# Altium footprint library ON Semi General Purpose Transistors.PcbLib: 66 footprints (part 4 of 5)
Each footprint in its own frame and in the unit in brackets; x right, y up, seen from the top. Pads: shape width x height; smd on the part's side, far side on the other; paste and mask are expansions set on the pad; w line width, h text height; cw(c..) or ccw(c..) is an arc to the next point about the centre after c.
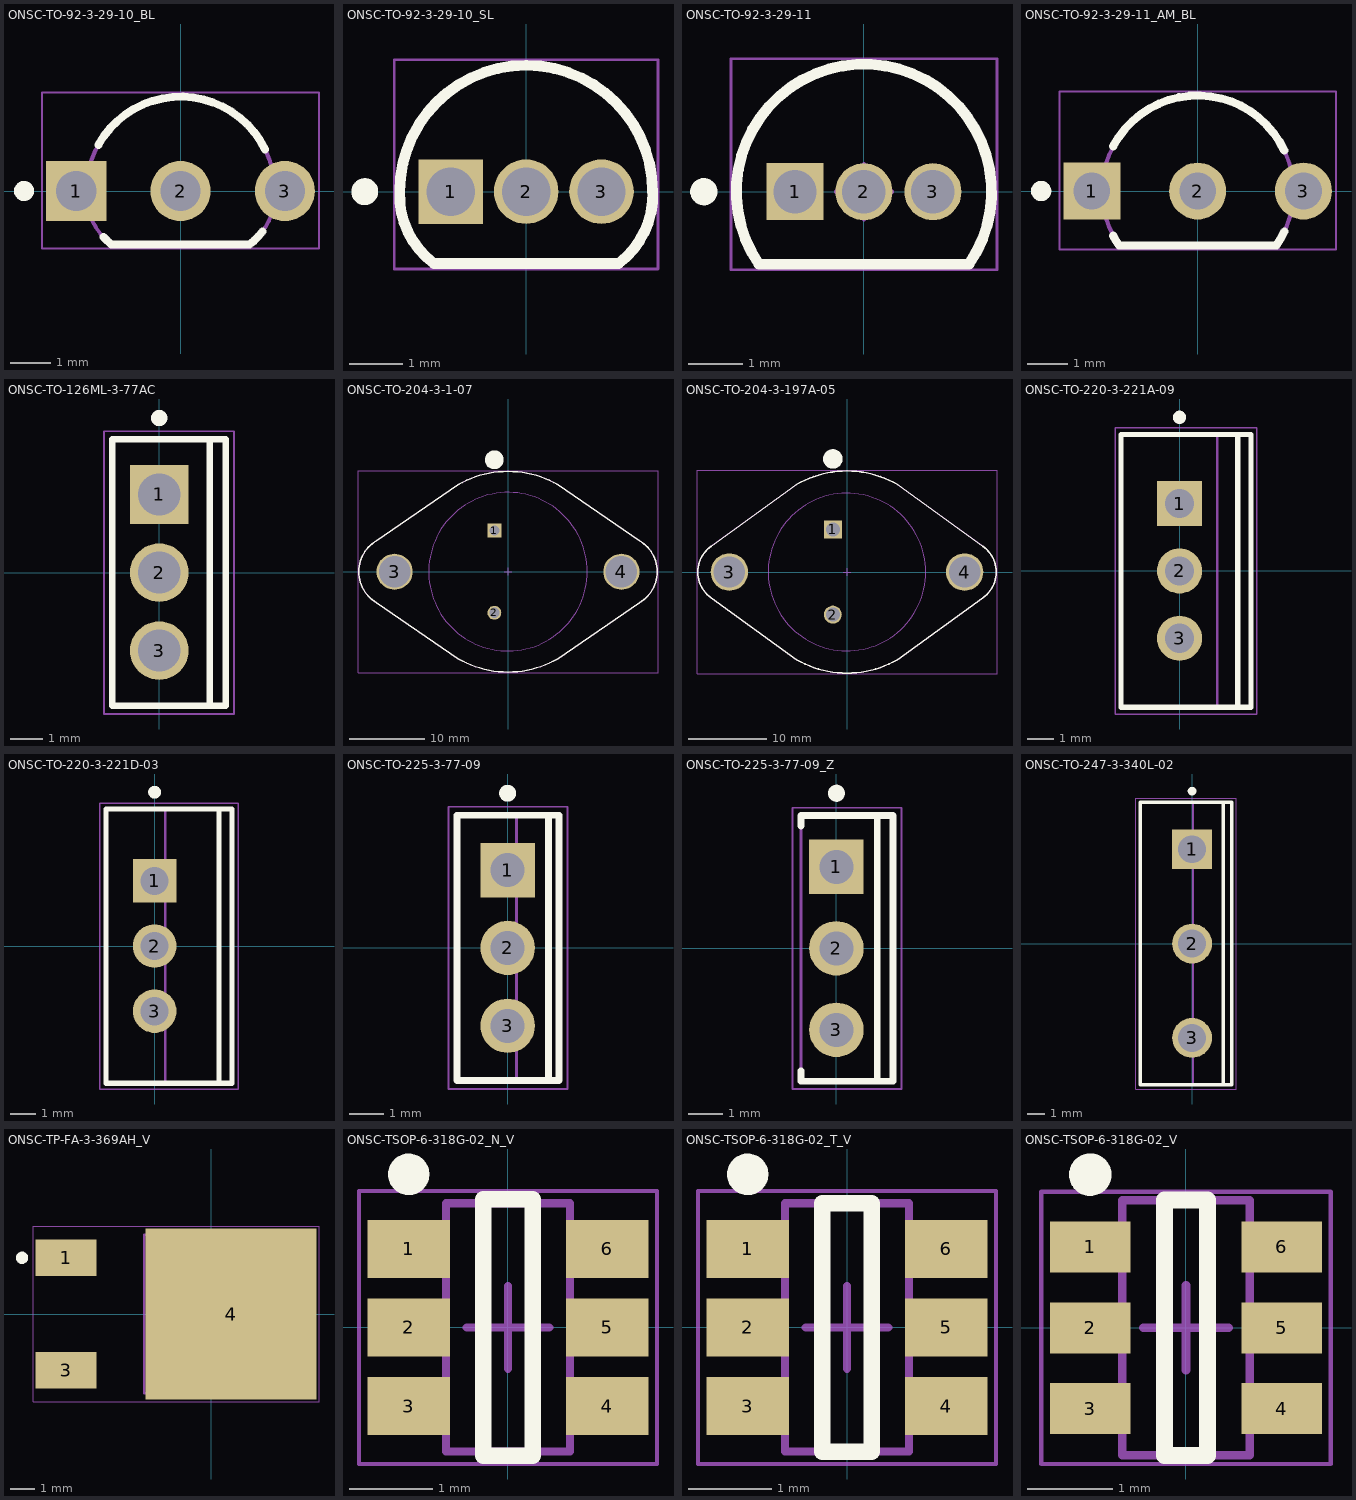
[diagram p3: the footprints below, top view; thin cyan lines are the x and y axes]

## ONSC-TO-92-3-29-10_BL [mm] "TO, 3-Leads, Body Dia 4.7 mm, Pitch 2.6 mm"
height 10.41
pads (3):
  rect 1.5x1.5 hole 1: 1(-2.6,0)
  round 1.5 hole 1: 2(0,0) 3(2.6,0)
Top Overlay:
  circle w0.25: c-3.9,0 r0.125
  lines w0.2: -2.05,1.15 cw(c0,0) 2.108,1.04 ; -1.922,-1.15 ccw(c-0.773,-0.068) -1.715,-1.335 1.715,-1.335 ccw(c0.773,-0.068) 2.043,-1.006
Mechanical 13:
  lines w0.1: -2.35,0 ccw(c-0.773,-0.068) -1.715,-1.335 1.715,-1.335 ccw(c0.773,-0.068) 2.35,0 ; -2.35,0 cw(c0,0) 2.35,0
Mechanical 15:
  lines w0.05: -3.45,-1.435 3.45,-1.435 3.45,2.45 -3.45,2.45 -3.45,-1.435
  lines w0.1: -0.5,0 0.5,0 ; 0,-0.5 0,0.5
3D body: height 10.41, standoff 2.54, extent -2.359,-1.336 2.352,0
3D body: height 7.87, standoff 2.54, extent -2.351,-0.001 2.351,2.351

## ONSC-TO-92-3-29-10_SL [mm] "TO, 3-Leads, Body Dia 4.7 mm, Pitch 1.27mm"
height 10.41
pads (3):
  rect 1.2x1.2 hole 0.9: 1(-1.4,0)
  round 1.2 hole 0.9: 2(0,0) 3(1.4,0)
Top Overlay:
  circle w0.25: c-3,0 r0.125
  lines w0.2: -2.35,0 ccw(c-0.773,-0.068) -1.715,-1.335 1.715,-1.335 ccw(c0.773,-0.068) 2.35,0 ; -2.35,0 cw(c0,0) 2.35,0
Mechanical 13:
  lines w0.1: -2.35,0 ccw(c-0.773,-0.068) -1.715,-1.335 1.715,-1.335 ccw(c0.773,-0.068) 2.35,0 ; -2.35,0 cw(c0,0) 2.35,0
Mechanical 15:
  lines w0.05: -2.45,-1.435 2.45,-1.435 2.45,2.45 -2.45,2.45 -2.45,-1.435
  lines w0.1: -0.5,0 0.5,0 ; 0,-0.5 0,0.5
3D body: height 10.41, standoff 2.54, extent -2.352,-1.335 2.359,2.351

## ONSC-TO-92-3-29-11 [mm] "TO, 3-Leads, Body Dia 4.7mm, Pitch 1.27mm"
height 7.87
pads (3):
  rect 1.05x1.05 hole 0.8: 1(-1.27,0)
  round 1.05 hole 0.8: 2(0,0) 3(1.27,0)
Top Overlay:
  circle w0.25: c-2.95,0 r0.125
  lines w0.2: -1.934,-1.335 cw(c0,0) 1.934,-1.335 -1.934,-1.335
Mechanical 13:
  lines w0.1: -1.934,-1.335 cw(c0,0) 1.934,-1.335 -1.934,-1.335
Mechanical 15:
  lines w0.05: -2.45,-1.435 2.45,-1.435 2.45,2.45 -2.45,2.45 -2.45,-1.435
  lines w0.1: -0.5,0 0.5,0 ; 0,-0.5 0,0.5
3D body: height 7.87, standoff 2.54, extent -2.349,-1.334 2.357,2.359

## ONSC-TO-92-3-29-11_AM_BL [mm] "TO, 3-Leads, Body Dia 4.7mm, Pitch 2.6mm"
height 8.923
pads (3):
  rect 1.4x1.4 hole 0.9: 1(-2.6,0)
  round 1.4 hole 0.9: 2(0,0) 3(2.6,0)
Top Overlay:
  circle w0.25: c-3.85,0 r0.125
  lines w0.2: -2.077,-1.1 ccw(c0,0) -1.934,-1.335 1.934,-1.335 ccw(c0,0) 2.129,-0.994 ; -2.077,1.1 cw(c0,0) 2.129,0.994
Mechanical 13:
  lines w0.1: -1.934,-1.335 cw(c0,0) 1.934,-1.335 -1.934,-1.335
Mechanical 15:
  lines w0.05: -3.4,-1.435 3.4,-1.435 3.4,2.45 -3.4,2.45 -3.4,-1.435
  lines w0.1: -0.5,0 0.5,0 ; 0,-0.5 0,0.5
3D body: height 8.92, standoff 1.5, extent -2.359,-1.335 2.359,2.351
3D body "PCB3.step": height 4, standoff -8.7, extent -2.836,-0.222 2.836,0.223

## ONSC-TO-126ML-3-77AC [mm] "FM, 3-Leads, Body 8.2x3.5mm, Pitch 2.4mm"
height 12.5
pads (3):
  rect 1.8x1.8 hole 1.3: 1(0,2.4)
  round 1.8 hole 1.3: 2(0,0) 3(0,-2.4)
Top Overlay:
  circle w0.25: c0,4.75 r0.125
  lines w0.2: 1.55,-4.1 1.55,4.1 ; -1.45,-4.1 -1.45,4.1 2.05,4.1 2.05,-4.1 -1.45,-4.1
Mechanical 13:
  lines w0.1: 2.05,-4.1 2.05,4.1 ; 2.05,-4.1 -1.45,-4.1 -1.45,4.1 2.05,4.1 ; 2.05,-4.1 2.05,4.1
Mechanical 15:
  lines w0.05: -1.7,-4.35 2.3,-4.35 2.3,4.35 -1.7,4.35 -1.7,-4.35
  lines w0.1: -0.5,0 0.5,0 ; 0,-0.5 0,0.5
3D body: height 13.1, standoff 12.5, extent 2.05,-4 2.05,4
3D body: height 12.5, standoff 1.2, extent -1.45,-4.1 2.05,4.1
3D body: height 0, standoff -1.6, extent -0.35,-2.8 0.35,-2
3D body: height 1.2, standoff 0, extent -0.35,-3.2 0.35,-1.6
3D body: height 0, standoff -1.6, extent -0.35,-0.4 0.35,0.4
3D body: height 1.2, standoff 0, extent -0.35,-0.8 0.35,0.8
3D body: height 0, standoff -1.6, extent -0.35,2 0.35,2.8
3D body: height 1.2, standoff 0, extent -0.35,1.6 0.35,3.2

## ONSC-TO-204-3-1-07 [mm] "TO-204, Pin Spacing 10.92mm, Lead Dia. 1.09 mm (max)"
height 8.51
pads (4):
  rect 1.85x1.85 hole 1.35: 1(-1.815,5.46)
  round 1.85 hole 1.35: 2(-1.815,-5.46)
  round 4.8 hole 4.19 mask+0.102: 3(-15.075,0) 4(15.075,0)
Top Overlay:
  circle w1.25: c-1.815,14.875 r0.625
  lines w0.2: -19.845,0 cw(c-15.075,0) -17.46,4.131 -6.668,11.548 cw(c0,0) 6.667,11.548 17.46,4.131 cw(c15.075,0) 19.845,0 cw(c15.075,0) 17.46,-4.131 6.668,-11.548 cw(c0,0) -6.667,-11.548 -17.46,-4.131 cw(c-15.075,0) -19.845,0
Mechanical 13:
  circle w0.1: c0,0 r10.54
  lines w0.1: -17.981,-3.791 -6.475,-11.681 ; -17.811,3.907 -6.475,11.681 ; -17.46,-4.131 cw(c-15.075,0) -19.845,0 cw(c-15.075,0) -17.46,4.131 ; -6.667,-11.548 ccw(c0,0) 6.668,-11.548 ; -6.668,11.548 cw(c0,0) 6.667,11.548 ; 6.475,-11.681 17.811,-3.907 ; 6.475,11.681 17.981,3.791 ; 17.46,-4.131 ccw(c15.075,0) 19.845,0 ccw(c15.075,0) 17.46,4.131 ; 12.98,0 ccw(c15.075,0) 17.17,0 ccw(c15.075,0) 12.98,0
Mechanical 15:
  lines w0.05: -19.939,-13.45 -19.939,13.45 19.939,13.45 19.939,-13.45 -19.939,-13.45
  lines w0.1: -0.5,0 0.5,0 ; 0,-0.5 0,0.5
3D body: height 1.77, standoff 0, extent -19.844,-13.334 19.845,-0.001
3D body: height 1.77, standoff 0, extent -19.845,0.001 19.844,13.334
3D body: height 8.51, standoff 1.77, extent -10.539,-10.539 10.54,10.54

## ONSC-TO-204-3-197A-05 [mm] "TO-204, Pin Spacing 10.92 mm, Lead Dia. 1.6 mm (max)"
height 8.51
pads (4):
  rect 2.3x2.3 hole 1.8: 1(-1.815,5.46)
  round 2.3 hole 1.8: 2(-1.815,-5.46)
  round 4.8 hole 4.015: 3(-15.075,0) 4(15.075,0)
Top Overlay:
  circle w1.25: c-1.815,14.492 r0.625
  lines w0.2: -17.449,-3.281 -6.478,-11.219 ccw(c0,0) 0,-12.955 ccw(c0,0) 6.478,-11.219 17.449,-3.281 ; -17.449,3.281 -6.478,11.219 cw(c0,0) 0,12.955 cw(c0,0) 6.478,11.219 17.449,3.281 ; -17.398,-3.318 cw(c-15.075,0) -19.125,0 cw(c-15.075,0) -17.398,3.318 ; 17.398,-3.318 ccw(c15.075,0) 19.125,0 ccw(c15.075,0) 17.398,3.318
Mechanical 13:
  circle w0.1: c15.075,0 r2.007
  circle w0.1: c-15.075,0 r2.007
  circle w0.1: c0,0 r10.098
  lines w0.1: -17.449,-3.281 -6.478,-11.219 ccw(c0,0) 0,-12.955 ccw(c0,0) 6.478,-11.219 17.449,-3.281 ; -17.449,3.281 -6.478,11.219 cw(c0,0) 0,12.955 cw(c0,0) 6.478,11.219 17.449,3.281 ; -17.398,-3.318 cw(c-15.075,0) -19.125,0 cw(c-15.075,0) -17.398,3.318 ; 17.398,-3.318 ccw(c15.075,0) 19.125,0 ccw(c15.075,0) 17.398,3.318
Mechanical 15:
  lines w0.05: -19.225,-13.055 19.225,-13.055 19.225,13.055 -19.225,13.055 -19.225,-13.055
  lines w0.1: -0.5,0 0.5,0 ; 0,-0.5 0,0.5
3D body: height 8.51, standoff 0, extent -10.097,-10.097 10.097,10.097
3D body: height 1.77, standoff 0, extent -19.124,0.001 19.124,12.954
3D body: height 1.77, standoff 0, extent -19.124,-12.954 19.124,-0.001
3D body: height 0, standoff -11.69, extent -2.577,-6.222 -1.053,-4.698
3D body: height 0, standoff -11.69, extent -2.577,4.698 -1.053,6.222

## ONSC-TO-220-3-221A-09 [mm] "FM, 3-Leads, Body 10.3x4.85mm, Pitch 2.54mm"
height 19.85
pads (3):
  rect 1.7x1.7 hole 1.1: 1(0,2.54)
  round 1.7 hole 1.1: 2(0,0) 3(0,-2.54)
Top Overlay:
  circle w0.25: c0,5.8 r0.125
  lines w0.2: 2.195,-5.15 2.195,5.15 ; -2.205,-5.15 2.695,-5.15 2.695,5.15 -2.205,5.15 -2.205,-5.15
Mechanical 13:
  lines w0.1: 1.42,-5.15 1.42,5.15 ; -2.18,-5.15 -2.18,5.15 2.67,5.15 2.67,-5.15 -2.18,-5.15
Mechanical 15:
  lines w0.05: -2.43,-5.4 -2.43,5.4 2.92,5.4 2.92,-5.4 -2.43,-5.4
  lines w0.1: -0.5,0 0.5,0 ; 0,-0.5 0,0.5
3D body: height 2.8, standoff 0, extent -0.25,1.87 0.25,3.21
3D body: height 0, standoff -1.6, extent -0.25,2.15 0.25,2.93
3D body: height 2.8, standoff 0, extent -0.25,-0.67 0.25,0.67
3D body: height 0, standoff -1.6, extent -0.25,-0.39 0.25,0.39
3D body: height 2.8, standoff 0, extent -0.25,-3.21 0.25,-1.87
3D body: height 0, standoff -1.6, extent -0.25,-2.93 0.25,-2.15
3D body: height 13.65, standoff 2.8, extent -2.18,-5.15 2.67,5.15
3D body: height 15.13, standoff 13.65, extent 1.42,-4.975 2.67,4.975
3D body: height 15.17, standoff 15.13, extent 1.42,0.376 2.67,4.975
3D body: height 15.17, standoff 15.13, extent 1.42,-4.975 2.67,-0.376
3D body: height 18.98, standoff 18.94, extent 1.42,0.376 2.67,4.975
3D body: height 18.98, standoff 18.94, extent 1.42,-4.975 2.67,-0.376
3D body: height 15.28, standoff 15.16, extent 1.42,0.737 2.67,4.975
3D body: height 15.28, standoff 15.16, extent 1.42,-4.975 2.67,-0.737
3D body: height 18.94, standoff 18.83, extent 1.42,0.737 2.67,4.975
3D body: height 18.94, standoff 18.83, extent 1.42,-4.975 2.67,-0.737
3D body: height 15.45, standoff 15.27, extent 1.42,1.069 2.67,4.975
3D body: height 15.45, standoff 15.27, extent 1.42,-4.975 2.67,-1.069
3D body: height 18.83, standoff 18.65, extent 1.42,1.069 2.67,4.975
3D body: height 18.83, standoff 18.65, extent 1.42,-4.975 2.67,-1.069
3D body: height 15.69, standoff 15.45, extent 1.42,1.361 2.67,4.975
3D body: height 15.69, standoff 15.45, extent 1.42,-4.975 2.67,-1.361
3D body: height 18.66, standoff 18.41, extent 1.42,1.361 2.67,4.975
3D body: height 18.66, standoff 18.41, extent 1.42,-4.975 2.67,-1.361
3D body: height 15.99, standoff 15.69, extent 1.42,1.601 2.67,4.975
3D body: height 15.99, standoff 15.69, extent 1.42,-4.975 2.67,-1.601
3D body: height 18.42, standoff 18.12, extent 1.42,1.601 2.67,4.975
3D body: height 18.42, standoff 18.12, extent 1.42,-4.975 2.67,-1.601
3D body: height 16.32, standoff 15.98, extent 1.42,1.778 2.67,4.975
3D body: height 16.32, standoff 15.98, extent 1.42,-4.975 2.67,-1.778
3D body: height 18.12, standoff 17.79, extent 1.42,1.778 2.67,4.975
3D body: height 18.12, standoff 17.79, extent 1.42,-4.975 2.67,-1.778
3D body: height 16.68, standoff 16.31, extent 1.42,1.888 2.67,4.975
3D body: height 16.68, standoff 16.31, extent 1.42,-4.975 2.67,-1.888
3D body: height 17.79, standoff 17.43, extent 1.42,1.888 2.67,4.975
3D body: height 17.79, standoff 17.43, extent 1.42,-4.975 2.67,-1.888
3D body: height 17.05, standoff 16.67, extent 1.42,1.925 2.67,4.975
3D body: height 17.05, standoff 16.67, extent 1.42,-4.975 2.67,-1.925
3D body: height 17.43, standoff 17.05, extent 1.42,1.925 2.67,4.975
3D body: height 17.43, standoff 17.05, extent 1.42,-4.975 2.67,-1.925
3D body: height 19.85, standoff 18.98, extent 1.42,-4.975 2.67,4.975

## ONSC-TO-220-3-221D-03 [mm] "FM, 3-Leads, Body 10.65x4.9mm, Pitch 2.54mm"
height 19.55
pads (3):
  rect 1.7x1.7 hole 1.1: 1(0,2.54)
  round 1.7 hole 1.1: 2(0,0) 3(0,-2.54)
Top Overlay:
  circle w0.25: c0,6 r0.125
  lines w0.2: 2.51,-5.35 2.51,5.35 ; -1.89,-5.35 3.01,-5.35 3.01,5.35 -1.89,5.35 -1.89,-5.35
Mechanical 13:
  lines w0.1: 0.41,-5.325 0.41,5.325 ; -1.89,-5.325 -1.89,5.325 3.01,5.325 3.01,-5.325 -1.89,-5.325
Mechanical 15:
  lines w0.05: -2.14,-5.575 -2.14,5.575 3.26,5.575 3.26,-5.575 -2.14,-5.575
  lines w0.1: -0.5,0 0.5,0 ; 0,-0.5 0,0.5
3D body: height 3, standoff 0, extent -0.27,1.865 0.27,3.215
3D body: height 0, standoff -1.6, extent -0.27,2.14 0.27,2.94
3D body: height 3, standoff 0, extent -0.27,-0.675 0.27,0.675
3D body: height 0, standoff -1.6, extent -0.27,-0.4 0.27,0.4
3D body: height 3, standoff 0, extent -0.27,-3.215 0.27,-1.865
3D body: height 0, standoff -1.6, extent -0.27,-2.94 0.27,-2.14
3D body: height 13.1, standoff 3, extent -1.89,-5.325 3.01,5.325
3D body: height 14.7, standoff 13.1, extent 0.41,-5.15 3.01,5.15
3D body: height 14.73, standoff 14.7, extent 0.41,0.302 3.01,5.15
3D body: height 14.73, standoff 14.7, extent 0.41,-5.15 3.01,-0.302
3D body: height 17.8, standoff 17.77, extent 0.41,0.302 3.01,5.15
3D body: height 17.8, standoff 17.77, extent 0.41,-5.15 3.01,-0.302
3D body: height 14.82, standoff 14.73, extent 0.41,0.593 3.01,5.15
3D body: height 14.82, standoff 14.73, extent 0.41,-5.15 3.01,-0.593
3D body: height 17.78, standoff 17.68, extent 0.41,0.593 3.01,5.15
3D body: height 17.78, standoff 17.68, extent 0.41,-5.15 3.01,-0.593
3D body: height 14.97, standoff 14.82, extent 0.41,0.861 3.01,5.15
3D body: height 14.97, standoff 14.82, extent 0.41,-5.15 3.01,-0.861
3D body: height 17.69, standoff 17.54, extent 0.41,0.861 3.01,5.15
3D body: height 17.69, standoff 17.54, extent 0.41,-5.15 3.01,-0.861
3D body: height 15.16, standoff 14.96, extent 0.41,1.096 3.01,5.15
3D body: height 15.16, standoff 14.96, extent 0.41,-5.15 3.01,-1.096
3D body: height 17.54, standoff 17.35, extent 0.41,1.096 3.01,5.15
3D body: height 17.54, standoff 17.35, extent 0.41,-5.15 3.01,-1.096
3D body: height 15.39, standoff 15.15, extent 0.41,1.289 3.01,5.15
3D body: height 15.39, standoff 15.15, extent 0.41,-5.15 3.01,-1.289
3D body: height 17.35, standoff 17.11, extent 0.41,1.289 3.01,5.15
3D body: height 17.35, standoff 17.11, extent 0.41,-5.15 3.01,-1.289
3D body: height 15.66, standoff 15.39, extent 0.41,1.432 3.01,5.15
3D body: height 15.66, standoff 15.39, extent 0.41,-5.15 3.01,-1.432
3D body: height 17.12, standoff 16.84, extent 0.41,1.432 3.01,5.15
3D body: height 17.12, standoff 16.84, extent 0.41,-5.15 3.01,-1.432
3D body: height 15.95, standoff 15.66, extent 0.41,1.52 3.01,5.15
3D body: height 15.95, standoff 15.66, extent 0.41,-5.15 3.01,-1.52
3D body: height 16.85, standoff 16.55, extent 0.41,1.52 3.01,5.15
3D body: height 16.85, standoff 16.55, extent 0.41,-5.15 3.01,-1.52
3D body: height 16.25, standoff 15.95, extent 0.41,1.55 3.01,5.15
3D body: height 16.25, standoff 15.95, extent 0.41,-5.15 3.01,-1.55
3D body: height 16.56, standoff 16.25, extent 0.41,1.55 3.01,5.15
3D body: height 16.56, standoff 16.25, extent 0.41,-5.15 3.01,-1.55
3D body: height 19.55, standoff 17.8, extent 0.41,-5.15 3.01,5.15

## ONSC-TO-225-3-77-09 [mm] "FM, 3-Leads, Body 7.8x3mm, Pitch 2.29mm"
height 13.64
pads (3):
  rect 1.6x1.6 hole 1: 1(0,2.29)
  round 1.6 hole 1: 2(0,0) 3(0,-2.29)
Top Overlay:
  circle w0.25: c0,4.55 r0.125
  lines w0.2: 1.2,-3.9 1.2,3.9 ; -1.49,-3.9 1.51,-3.9 1.51,3.9 -1.49,3.9 -1.49,-3.9
Mechanical 13:
  lines w0.1: 0.26,-3.9 0.26,3.9 ; -1.49,-3.9 -1.49,3.9 1.51,3.9 1.51,-3.9 -1.49,-3.9
Mechanical 15:
  lines w0.05: -1.74,-4.15 -1.74,4.15 1.76,4.15 1.76,-4.15 -1.74,-4.15
  lines w0.1: -0.5,0 0.5,0 ; 0,-0.5 0,0.5
3D body: height 1.27, standoff 0, extent -0.255,1.74 0.255,2.84
3D body: height 0, standoff -1.6, extent -0.255,1.915 0.255,2.665
3D body: height 1.27, standoff 0, extent -0.255,-0.55 0.255,0.55
3D body: height 0, standoff -1.6, extent -0.255,-0.375 0.255,0.375
3D body: height 1.27, standoff 0, extent -0.255,-2.84 0.255,-1.74
3D body: height 0, standoff -1.6, extent -0.255,-2.665 0.255,-1.915
3D body: height 13.64, standoff 1.27, extent -1.49,-3.9 1.51,3.9
3D body: height 13.64, standoff 13.64, extent 0.26,-3.8 1.51,3.8

## ONSC-TO-225-3-77-09_Z [mm] "FM, 3-Leads, Body 7.75x2.7mm, Pitch 2.39mm"
height 13.45
pads (3):
  rect 1.6x1.6 hole 1: 1(0,2.39)
  round 1.6 hole 1: 2(0,0) 3(0,-2.39)
Top Overlay:
  circle w0.25: c0,4.55 r0.125
  lines w0.2: -1.04,-3.59 -1.04,-3.9 1.66,-3.9 1.66,3.9 -1.04,3.9 -1.04,3.59 ; 1.2,-3.9 1.2,3.9
Mechanical 13:
  lines w0.1: 1.66,-3.875 1.66,3.875 ; 1.66,-3.875 -1.04,-3.875 -1.04,3.875 1.66,3.875 ; 1.66,-3.875 1.66,3.875
Mechanical 15:
  lines w0.05: -1.29,-4.125 1.91,-4.125 1.91,4.125 -1.29,4.125 -1.29,-4.125
  lines w0.1: -0.5,0 0.5,0 ; 0,-0.5 0,0.5
3D body: height 13.45, standoff 13.45, extent 1.66,-3.8 1.66,3.8
3D body: height 13.45, standoff 1.27, extent -1.04,-3.875 1.66,3.875
3D body: height 0, standoff -1.6, extent -0.255,-2.77 0.255,-2.01
3D body: height 1.27, standoff 0, extent -0.255,-2.94 0.255,-1.84
3D body: height 0, standoff -1.6, extent -0.255,-0.38 0.255,0.38
3D body: height 1.27, standoff 0, extent -0.255,-0.55 0.255,0.55
3D body: height 0, standoff -1.6, extent -0.255,2.01 0.255,2.77
3D body: height 1.27, standoff 0, extent -0.255,1.84 0.255,2.94

## ONSC-TO-247-3-340L-02 [mm] "FM, 3-Leads, Body 16.3x5.3mm, Pitch 5.45mm"
height 25.58
pads (3):
  rect 2.3x2.3 hole 1.6: 1(0,5.45)
  round 2.3 hole 1.6: 2(0,0) 3(0,-5.45)
Top Overlay:
  circle w0.25: c0,8.8 r0.125
  lines w0.2: 1.8,-8.15 1.8,8.15 ; -3,-8.15 -3,8.15 2.3,8.15 2.3,-8.15 -3,-8.15
Mechanical 13:
  lines w0.1: 0.05,-8.15 0.05,8.15 ; -3,-8.15 2.3,-8.15 2.3,8.15 -3,8.15 -3,-8.15
Mechanical 15:
  lines w0.05: -3.25,-8.4 2.55,-8.4 2.55,8.4 -3.25,8.4 -3.25,-8.4
  lines w0.1: -0.5,0 0.5,0 ; 0,-0.5 0,0.5
3D body: height 25.58, standoff 4.5, extent -3,-8.15 2.3,8.15
3D body: height 0, standoff -1.6, extent -0.3,-6.05 0.3,-4.85
3D body: height 4.5, standoff 0, extent -0.3,-6.95 0.3,-3.95
3D body: height 0, standoff -1.6, extent -0.3,4.85 0.3,6.05
3D body: height 4.5, standoff 0, extent -0.3,3.95 0.3,6.95
3D body: height 0, standoff -1.6, extent -0.3,-0.6 0.3,0.6
3D body: height 4.5, standoff 0, extent -0.3,-1.5 0.3,1.5

## ONSC-TP-FA-3-369AH_V [mm] "DPAK, 3-Leads, Body 6.5x5.5mm, Pitch 2.3mm"
height 2.5
pads (3):
  rect 2.5x1.5 smd: 1(-5.95,2.3) 3(-5.95,-2.3)
  rect 7x7 smd: 4(0.8,0)
Top Overlay:
  circle w0.25: c-7.75,2.3 r0.125
Mechanical 13:
  lines w0.1: -2.75,-3.25 -2.75,3.25 2.75,3.25 2.75,-3.25 -2.75,-3.25
Mechanical 15:
  lines w0.05: -7.3,-3.6 -7.3,3.6 4.4,3.6 4.4,-3.6 -7.3,-3.6
  lines w0.1: -0.5,0 0.5,0 ; 0,-0.5 0,0.5
3D body: height 2.5, standoff 0, extent -2.75,-3.25 2.75,3.25

## ONSC-TSOP-6-318G-02_N_V [mm] "TSOP, 6-Leads, Body 3x1.5mm, Pitch 0.95mm"
height 1.1
pads (6):
  rect 1x0.7 smd: 1(-1.2,0.95) 2(-1.2,0) 3(-1.2,-0.95) 4(1.2,-0.95) 5(1.2,0) 6(1.2,0.95)
Top Overlay:
  circle w0.25: c-1.2,1.85 r0.125
  lines w0.2: -0.3,-1.55 0.3,-1.55 0.3,1.55 -0.3,1.55 -0.3,-1.55
Mechanical 13:
  lines w0.1: -0.75,-1.5 0.75,-1.5 0.75,1.5 -0.75,1.5 -0.75,-1.5
Mechanical 15:
  lines w0.05: -1.8,-1.65 1.8,-1.65 1.8,1.65 -1.8,1.65 -1.8,-1.65
  lines w0.1: -0.5,0 0.5,0 ; 0,-0.5 0,0.5
3D body: height 1.1, standoff 0.01, extent -0.75,-1.5 0.75,1.5

## ONSC-TSOP-6-318G-02_T_V [mm] "SOP, 6-Leads, Body 3x1.5mm, Pitch 0.95mm"
height 1.1
pads (6):
  rect 1x0.7 smd: 1(-1.2,0.95) 2(-1.2,0) 3(-1.2,-0.95) 4(1.2,-0.95) 5(1.2,0) 6(1.2,0.95)
Top Overlay:
  circle w0.25: c-1.2,1.85 r0.125
  lines w0.2: -0.3,-1.5 0.3,-1.5 0.3,1.5 -0.3,1.5 -0.3,-1.5
Mechanical 13:
  lines w0.1: -0.75,-1.5 -0.75,1.5 0.75,1.5 0.75,-1.5 -0.75,-1.5
Mechanical 15:
  lines w0.05: -1.8,-1.65 -1.8,1.65 1.8,1.65 1.8,-1.65 -1.8,-1.65
  lines w0.1: -0.5,0 0.5,0 ; 0,-0.5 0,0.5
3D body: height 1.1, standoff 0.01, extent -0.75,-1.5 0.75,1.5

## ONSC-TSOP-6-318G-02_V [mm] "SOP, 6-Leads, Body 3x1.5mm, Pitch 0.95mm"
height 1.1
pads (6):
  rect 0.95x0.6 smd: 1(-1.125,0.95) 2(-1.125,0) 3(-1.125,-0.95) 4(1.125,-0.95) 5(1.125,0) 6(1.125,0.95)
Top Overlay:
  circle w0.25: c-1.125,1.8 r0.125
  lines w0.2: -0.25,-1.5 0.25,-1.5 0.25,1.5 -0.25,1.5 -0.25,-1.5
Mechanical 13:
  lines w0.1: -0.75,-1.5 0.75,-1.5 0.75,1.5 -0.75,1.5 -0.75,-1.5
Mechanical 15:
  lines w0.05: -1.7,-1.6 1.7,-1.6 1.7,1.6 -1.7,1.6 -1.7,-1.6
  lines w0.1: -0.5,0 0.5,0 ; 0,-0.5 0,0.5
3D body: height 1.1, standoff 0.01, extent -0.75,-1.5 0.75,1.5